# Altium footprint library HDR5.08-X10.PcbLib: 1 footprints
Each footprint in its own frame and in the unit in brackets; x right, y up, seen from the top. Pads: shape width x height; smd on the part's side, far side on the other; paste and mask are expansions set on the pad; w line width, h text height; cw(c..) or ccw(c..) is an arc to the next point about the centre after c.
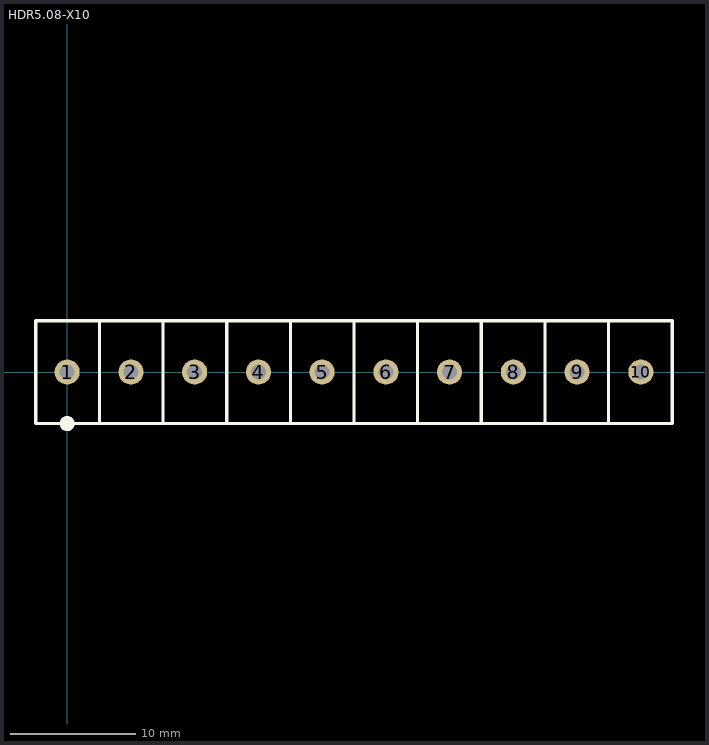
[diagram p0: the footprint, top view; thin cyan lines are the x and y axes]

## HDR5.08-X10 [mm] "Terminal Blocks - Wire to Board HDR 5.08 Pitch,X10"
height 10
pads (10):
  round 2 hole 1.2: 1(0,0) 2(5.08,0) 3(10.16,0) 4(15.24,0) 5(20.32,0) 6(25.4,0) 7(30.48,0) 8(35.56,0) 9(40.64,0) 10(45.72,0)
Top Overlay:
  circle w0.6: c0,-4.1 r0.3
  lines w0.254: 2.572,-4.1 2.572,4.1 ; 7.644,-4.1 7.644,4.1 ; 12.716,-4.1 12.716,4.1 ; 17.788,-4.1 17.788,4.1 ; 22.86,-4.1 22.86,4.1 ; 27.932,-4.1 27.932,4.1 ; 33.004,-4.1 33.004,4.1 ; 38.076,-4.1 38.076,4.1 ; 43.148,-4.1 43.148,4.1 ; -2.5,-4.1 -2.5,4.1 48.22,4.1 48.22,-4.1 -2.5,-4.1